# EAGLE library part TUSB2046B (library texas)
4-PORT HUB FOR THE UNIVERSAL SERIAL BUS WITH OPTIONAL SERIAL EEPROM INTERFACE Auto generated by make-symbol-device-package-bsdl.ulp Rev. 30 Source: http://focus.ti.com/lit/ds/symlink/tusb2046b.pdf
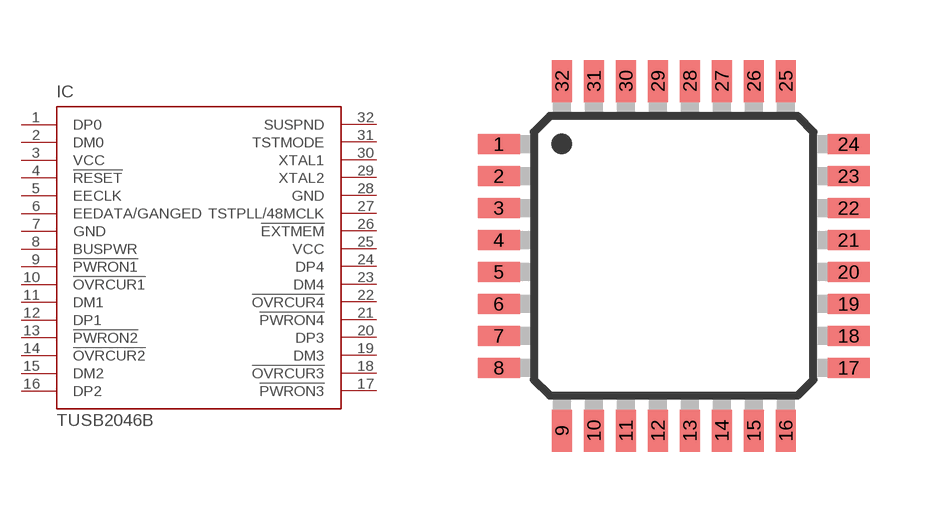
[diagram p116: symbol with the pads of VF_S-PQFP-G32; footprint VF_S-PQFP-G32]

Designator prefix IC

## TUSB2046BVFR (MF: TEXAS INSTRUMENTS; MPN: TUSB2046BVFR; OC_FARNELL: 1470507; OC_NEWARK: 77C1806)  [VF_S-PQFP-G32]
1  DP0
2  DM0
3  VCC  pwr
4  !RESET  in
5  EECLK  out
6  EEDATA/GANGED
7  GND  pwr
8  BUSPWR  in
9  !PWRON1  out
10  !OVRCUR1  in
11  DM1
12  DP1
13  !PWRON2  out
14  !OVRCUR2  in
15  DM2
16  DP2
17  !PWRON3  out
18  !OVRCUR3  in
19  DM3
20  DP3
21  !PWRON4  out
22  !OVRCUR4  in
23  DM4
24  DP4
25  VCC  pwr
26  !EXTMEM  in
27  TSTPLL/48MCLK
28  GND  pwr
29  XTAL2  out
30  XTAL1  in
31  TSTMODE  in
32  SUSPND  out

## Footprint VF_S-PQFP-G32 (pad centres in mm)
VF (S-PQFP-G32) Auto generated by make-symbol-device-package-bsdl.ulp Rev. 30 Souirce: http://focus.ti.com/lit/ds/symlink/tusb2046b.pdf
smd 1.05 x 0.5: 1 -4.375,2.8; 2 -4.375,2; 3 -4.375,1.2; 4 -4.375,0.4; 5 -4.375,-0.4; 6 -4.375,-1.2; 7 -4.375,-2; 8 -4.375,-2.8; 17 4.375,-2.8; 18 4.375,-2; 19 4.375,-1.2; 20 4.375,-0.4; 21 4.375,0.4; 22 4.375,1.2; 23 4.375,2; 24 4.375,2.8
smd 0.5 x 1.05: 9 -2.8,-4.375; 10 -2,-4.375; 11 -1.2,-4.375; 12 -0.4,-4.375; 13 0.4,-4.375; 14 1.2,-4.375; 15 2,-4.375; 16 2.8,-4.375; 25 2.8,4.375; 26 2,4.375; 27 1.2,4.375; 28 0.4,4.375; 29 -0.4,4.375; 30 -1.2,4.375; 31 -2,4.375; 32 -2.8,4.375